# Altium footprint library DronePCB.PcbLib: 6 footprints
Each footprint in its own frame and in the unit in brackets; x right, y up, seen from the top. Pads: shape width x height; smd on the part's side, far side on the other; paste and mask are expansions set on the pad; w line width, h text height; cw(c..) or ccw(c..) is an arc to the next point about the centre after c.
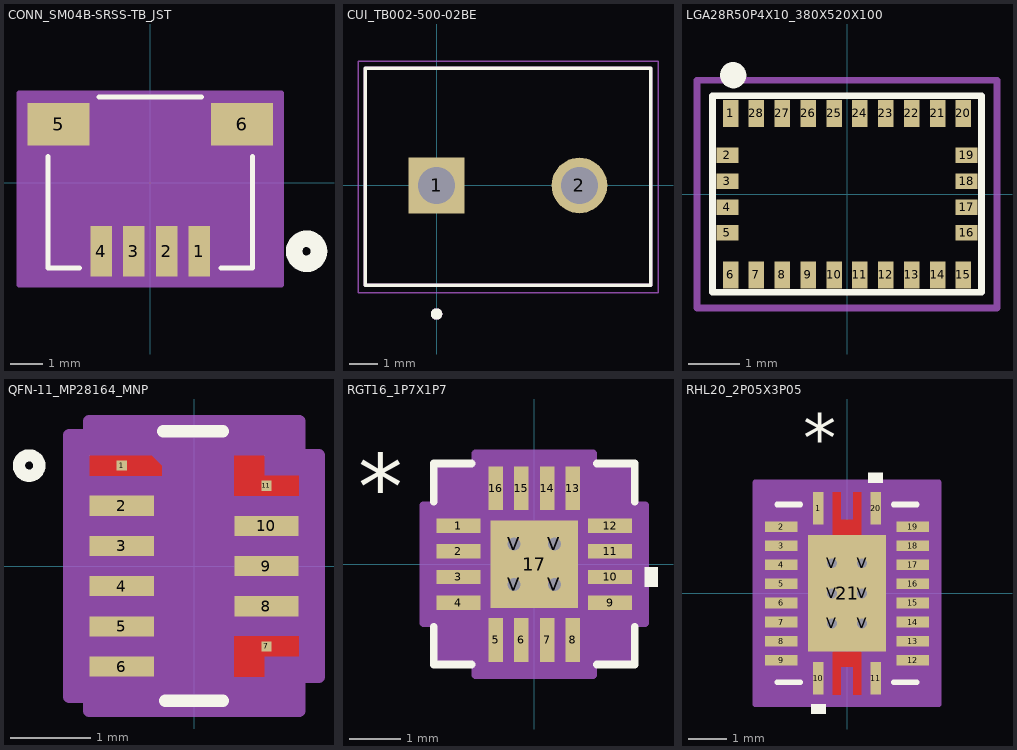
[diagram p0: the footprints below, top view; thin cyan lines are the x and y axes]

## CONN_SM04B-SRSS-TB_JST [mil] "Connector Header Surface Mount, Right Angle 4 position 0.039\" (1.00mm)"
pads (6):
  rect 26x61 smd paste+0 mask+0: 1(59.06,-82.62) 2(19.68,-82.62) 3(-19.68,-82.62) 4(-59.06,-82.62)
  rect 75x51 smd paste+0 mask+0: 5(-110.24,69.94) 6(110.24,69.94)
Top Overlay:
  circle w20: c187.74,-82.62 r15
  lines w6: -123,31.34 -123,-102.5 -85.16,-102.5 ; -61.7,102.5 61.7,102.5 ; 85.16,-102.5 123,-102.5 123,31.34
Bottom Overlay:
  circle w20: c187.74,-82.62 r15
Mechanical 13:
  circle w20: c59.06,-82.62 r15
  lines w1: -118,-97.5 118,-97.5 118,97.5 -118,97.5 -118,-97.5
Mechanical 15:
  region: 157.74,107.5 -157.74,107.5 -157.74,-123.12 157.74,-123.12
  lines w6: -157.74,-123.12 -157.74,107.5 157.74,107.5 157.74,-123.12 -157.74,-123.12
3D body "SM04B-SRSS-TB.STEP": height 128.15, standoff 11.61, extent -118.11,-108.39 118.11,86.47

## CUI_TB002-500-02BE [mm]
pads (2):
  rect 1.95x1.95 / inner round 1.95 / far side rect 1.95x1.95 hole 1.3: 1(0,0)
  round 1.95 hole 1.3: 2(5,0)
Top Overlay:
  circle w0.2: c0,-4.5 r0.1
  lines w0.127: -2.5,-3.5 -2.5,4.1 7.5,4.1 7.5,-3.5 -2.5,-3.5
Mechanical 13:
  circle w0.2: c0,-4.5 r0.1
  lines w0.127: -2.5,-3.5 -2.5,4.1 7.5,4.1 7.5,-3.5 -2.5,-3.5
Mechanical 15:
  lines w0.05: -2.75,-3.75 7.75,-3.75 7.75,4.35 -2.75,4.35 -2.75,-3.75
3D body "step_temp.STEP": height 10, standoff -4.35, extent -3.218,-3.302 7.282,4.298

## LGA28R50P4X10_380X520X100 [mm]
pads (28):
  rect 0.3x0.525 smd: 1(-2.25,1.562) 6(-2.25,-1.562) 7(-1.75,-1.562) 8(-1.25,-1.562) 9(-0.75,-1.562) 10(-0.25,-1.562) 11(0.25,-1.562) 12(0.75,-1.562) 13(1.25,-1.562) 14(1.75,-1.562) 15(2.25,-1.562) 20(2.25,1.562) 21(1.75,1.562) 22(1.25,1.562) 23(0.75,1.562) 24(0.25,1.562) 25(-0.25,1.562) 26(-0.75,1.562) 27(-1.25,1.562) 28(-1.75,1.562)
  rect 0.425x0.3 smd: 2(-2.312,0.75) 3(-2.312,0.25) 4(-2.312,-0.25) 5(-2.312,-0.75) 16(2.312,-0.75) 17(2.312,-0.25) 18(2.312,0.25) 19(2.312,0.75)
Top Overlay:
  circle w0.305: c-2.2,2.3 r0.1
  lines w0.127: -2.6,-1.9 2.6,-1.9 2.6,1.9 -2.6,1.9 -2.6,-1.9
Mechanical 15:
  lines w0.127: -2.9,-2.2 -2.9,2.2 2.9,2.2 2.9,-2.2 -2.9,-2.2

## QFN-11_MP28164_MNP [mm] "MP28164GD-Z"
pads (11):
  rect 0.127x0.127 smd paste-0.064 mask+0: 1(-0.9,1.25) 7(0.9,-1) 11(0.9,1)
  rect 0.8x0.25 smd paste-0.125 mask+0: 2(-0.9,0.75) 3(-0.9,0.25) 4(-0.9,-0.25) 5(-0.9,-0.75) 6(-0.9,-1.25) 8(0.9,-0.5) 9(0.9,0) 10(0.9,0.5)
Top Layer:
  region: 1.3,1.125 1.3,0.875 0.5,0.875 0.5,1.375 0.875,1.375 0.875,1.125
  region: -0.525,1.375 -1.3,1.375 -1.3,1.125 -0.4,1.125 -0.4,1.25
  region: 1.3,-1.125 1.3,-0.875 0.5,-0.875 0.5,-1.375 0.875,-1.375 0.875,-1.125
Top Overlay:
  circle w0.152: c-2.052,1.25 r0.127
  lines w0.152: -0.384,1.676 0.359,1.676 ; -0.359,-1.676 0.359,-1.676
Top Paste:
  region: 1.3,-1.125 1.3,-0.875 0.5,-0.875 0.5,-1.375 0.875,-1.375 0.875,-1.125
  region: 1.3,1.125 1.3,0.875 0.5,0.875 0.5,1.375 0.875,1.375 0.875,1.125
  region: -0.525,1.375 -1.3,1.375 -1.3,1.125 -0.4,1.125 -0.4,1.25
  region: -0.525,1.375 -1.3,1.375 -1.3,1.125 -0.4,1.125 -0.4,1.25
Top Solder:
  region: 1.3,-1.125 1.3,-0.875 0.5,-0.875 0.5,-1.375 0.875,-1.375 0.875,-1.125
  region: 1.3,1.125 1.3,0.875 0.5,0.875 0.5,1.375 0.875,1.375 0.875,1.125
  region: -0.525,1.375 -1.3,1.375 -1.3,1.125 -0.4,1.125 -0.4,1.25
  region: -0.525,1.375 -1.3,1.375 -1.3,1.125 -0.4,1.125 -0.4,1.25
Mechanical 13:
  circle w0: c-0.5,1.25 r0.076
  lines w0: -0.305,1.549 ccw(c0,1.549) 0.305,1.549
  lines w0.025: -1.054,-1.549 -1.054,1.549 1.054,1.549 1.054,-1.549 -1.054,-1.549
Mechanical 15:
  region: 1.308,1.379 1.308,1.803 -1.308,1.803 -1.308,1.629 -1.554,1.629 -1.554,-1.629 -1.308,-1.629 -1.308,-1.803 1.308,-1.803 1.308,-1.379 1.554,-1.379 1.554,1.379
  lines w0.152: -1.554,-1.629 -1.308,-1.629 -1.308,-1.803 1.308,-1.803 1.308,-1.379 1.554,-1.379 1.554,1.379 1.308,1.379 1.308,1.803 -1.308,1.803 -1.308,1.629 -1.554,1.629 -1.554,-1.629

## RGT16_1P7X1P7 [mm] "BQ24074RGTR"
pads (21):
  rect 0.85x0.28 smd paste+0 mask+0: 1(-1.475,0.75) 2(-1.475,0.25) 3(-1.475,-0.25) 4(-1.475,-0.75) 9(1.475,-0.75) 10(1.475,-0.25) 11(1.475,0.25) 12(1.475,0.75)
  rect 0.28x0.85 smd paste+0 mask+0: 5(-0.75,-1.475) 6(-0.25,-1.475) 7(0.25,-1.475) 8(0.75,-1.475) 13(0.75,1.475) 14(0.25,1.475) 15(-0.25,1.475) 16(-0.75,1.475)
  rect 1.7x1.7 smd paste-0.85 mask-0.838: 17(0,0)
  round 0.508 hole 0.254 paste-2539.97 mask-0.254: V(-0.394,-0.394) V(-0.394,0.394) V(0.394,-0.394) V(0.394,0.394)
Top Overlay:
  region: 2.154,-0.059 2.408,-0.059 2.408,-0.44 2.154,-0.44
  lines w0.152: -1.956,-1.218 -1.956,-1.956 -1.218,-1.956 ; -1.956,1.218 -1.956,1.956 -1.218,1.956 ; 1.218,-1.956 1.956,-1.956 1.956,-1.218 ; 1.218,1.956 1.956,1.956 1.956,1.218
  text "*" at -3.429,0.889 h1.27
Top Paste:
  region: 0.775,-0.494 0.635,-0.494 0.494,-0.635 0.494,-0.775 0.775,-0.775
  region: 0.775,0.294 0.635,0.294 0.494,0.152 0.494,-0.152 0.635,-0.294 0.775,-0.294
  region: 0.775,0.775 0.494,0.775 0.494,0.635 0.635,0.494 0.775,0.494
  region: 0.152,-0.494 -0.152,-0.494 -0.294,-0.635 -0.294,-0.775 0.294,-0.775 0.294,-0.635
  region: 0.152,0.294 -0.152,0.294 -0.294,0.152 -0.294,-0.152 -0.152,-0.294 0.152,-0.294 0.294,-0.152 0.294,0.152
  region: 0.294,0.775 -0.294,0.775 -0.294,0.635 -0.152,0.494 0.152,0.494 0.294,0.635
  region: -0.635,-0.494 -0.775,-0.494 -0.775,-0.775 -0.494,-0.775 -0.494,-0.635
  region: -0.635,0.294 -0.775,0.294 -0.775,-0.294 -0.635,-0.294 -0.494,-0.152 -0.494,0.152
  region: -0.494,0.775 -0.775,0.775 -0.775,0.494 -0.635,0.494 -0.494,0.635
Top Solder:
  region: 0.594,-0.914 0.594,0.914 0.914,0.914 0.914,-0.914
  region: 0.194,-0.914 0.194,0.914 -0.194,0.914 -0.194,-0.914
  region: -0.914,-0.914 -0.914,0.914 -0.594,0.914 -0.594,-0.914
  region: -0.914,-0.914 -0.914,-0.594 0.914,-0.594 0.914,-0.914
  region: -0.914,-0.194 -0.914,0.194 0.914,0.194 0.914,-0.194
  region: -0.914,0.594 -0.914,0.914 0.914,0.914 0.914,0.594
Mechanical 13:
  lines w0.025: -1.575,0.305 -0.305,1.575 ; -1.575,-1.575 -1.575,1.575 1.575,1.575 1.575,-1.575 -1.575,-1.575
  text "*" at -1.114,0.365 h1.27
Mechanical 15:
  region: -1.144,-1.829 -1.829,-1.829 -1.829,-1.144 -2.154,-1.144 -2.154,1.144 -1.829,1.144 -1.829,1.829 -1.144,1.829 -1.144,2.154 1.144,2.154 1.144,1.829 1.829,1.829 1.829,1.144 2.154,1.144 2.154,-1.144 1.829,-1.144 1.829,-1.829 1.144,-1.829 1.144,-2.154 -1.144,-2.154
  lines w0.152: -2.154,-1.144 -2.154,1.144 -1.829,1.144 -1.829,1.829 -1.144,1.829 -1.144,2.154 1.144,2.154 1.144,1.829 1.829,1.829 1.829,1.144 2.154,1.144 2.154,-1.144 1.829,-1.144 1.829,-1.829 1.144,-1.829 1.144,-2.154 -1.144,-2.154 -1.144,-1.829 -1.829,-1.829 -1.829,-1.144 -2.154,-1.144
3D body "RGT16_1P7X1P7.step": height 1, standoff 0, extent -1.626,-1.626 1.626,1.626

## RHL20_2P05X3P05 [mm] "BQ51013B"
pads (27):
  rect 0.28x0.85 smd paste-0.14 mask-0.419: 1(-0.75,2.225) 10(-0.75,-2.225) 11(0.75,-2.225) 20(0.75,2.225)
  rect 0.85x0.28 smd paste-0.14 mask-0.419: 2(-1.725,1.75) 3(-1.725,1.25) 4(-1.725,0.75) 5(-1.725,0.25) 6(-1.725,-0.25) 7(-1.725,-0.75) 8(-1.725,-1.25) 9(-1.725,-1.75) 12(1.725,-1.75) 13(1.725,-1.25) 14(1.725,-0.75) 15(1.725,-0.25) 16(1.725,0.25) 17(1.725,0.75) 18(1.725,1.25) 19(1.725,1.75)
  rect 2.05x3.05 smd paste-1.512 mask-1.511: 21(0,0)
  round 0.508 hole 0.254 paste-2539.97 mask-0.254: V(-0.394,-0.787) V(-0.394,0) V(-0.394,0.787) V(0.394,-0.787) V(0.394,0) V(0.394,0.787)
Top Layer:
  region: -0.375,1.525 0.375,1.525 0.375,2.65 0.16,2.65 0.16,1.925 -0.16,1.925 -0.16,2.65 -0.375,2.65
  region: -0.375,-1.525 0.375,-1.525 0.375,-2.65 0.16,-2.65 0.16,-1.925 -0.16,-1.925 -0.16,-2.65 -0.375,-2.65
Top Overlay:
  region: -0.56,-2.904 -0.941,-2.904 -0.941,-3.158 -0.56,-3.158
  region: 0.941,2.904 0.56,2.904 0.56,3.158 0.941,3.158
  lines w0.152: -1.825,-2.325 -1.223,-2.325 ; -1.825,2.325 -1.223,2.325 ; 1.223,-2.325 1.825,-2.325 ; 1.223,2.325 1.825,2.325
  text "*" at -1.143,3.429 h1.27
Top Paste:
  drawing of 36 lines, arcs and shapes, not listed
Top Solder:
  region: -1.23,1.96 -2.22,1.96 -2.22,1.54 -1.23,1.54
  region: -1.23,1.46 -2.22,1.46 -2.22,1.04 -1.23,1.04
  region: -1.23,0.96 -2.22,0.96 -2.22,0.54 -1.23,0.54
  region: -1.23,0.46 -2.22,0.46 -2.22,0.04 -1.23,0.04
  region: -1.23,-0.04 -2.22,-0.04 -2.22,-0.46 -1.23,-0.46
  region: -1.23,-0.54 -2.22,-0.54 -2.22,-0.96 -1.23,-0.96
  region: -1.23,-1.04 -2.22,-1.04 -2.22,-1.46 -1.23,-1.46
  region: -1.23,-1.54 -2.22,-1.54 -2.22,-1.96 -1.23,-1.96
  region: -0.54,-1.73 -0.96,-1.73 -0.96,-2.72 -0.54,-2.72
  region: 0.96,-1.73 0.54,-1.73 0.54,-2.72 0.96,-2.72
  region: 2.22,-1.54 1.23,-1.54 1.23,-1.96 2.22,-1.96
  region: 2.22,-1.04 1.23,-1.04 1.23,-1.46 2.22,-1.46
  region: 2.22,-0.54 1.23,-0.54 1.23,-0.96 2.22,-0.96
  region: 2.22,-0.04 1.23,-0.04 1.23,-0.46 2.22,-0.46
  region: 2.22,0.46 1.23,0.46 1.23,0.04 2.22,0.04
  region: 2.22,0.96 1.23,0.96 1.23,0.54 2.22,0.54
  region: 2.22,1.46 1.23,1.46 1.23,1.04 2.22,1.04
  region: 2.22,1.96 1.23,1.96 1.23,1.54 2.22,1.54
  region: 0.96,2.72 0.54,2.72 0.54,1.73 0.96,1.73
  region: -0.54,2.72 -0.96,2.72 -0.96,1.73 -0.54,1.73
  region: -0.375,1.525 0.375,1.525 0.375,2.65 0.16,2.65 0.16,1.925 -0.16,1.925 -0.16,2.65 -0.375,2.65
  region: -0.375,-1.525 0.375,-1.525 0.375,-2.65 0.16,-2.65 0.16,-1.925 -0.16,-1.925 -0.16,-2.65 -0.375,-2.65
  region: -1.088,0.987 -1.088,1.588 1.088,1.588 1.088,0.987
  region: -1.088,0.2 -1.088,0.587 1.088,0.587 1.088,0.2
  region: -1.088,-0.587 -1.088,-0.2 1.088,-0.2 1.088,-0.587
  region: -1.088,-1.588 -1.088,-0.987 1.088,-0.987 1.088,-1.588
  region: -1.088,-1.588 -1.088,1.588 -0.594,1.588 -0.594,-1.588
  region: 0.194,-1.588 0.194,1.588 -0.194,1.588 -0.194,-1.588
  region: 0.594,-1.588 0.594,1.588 1.088,1.588 1.088,-1.588
Mechanical 13:
  lines w0.025: -1.825,1.055 -0.555,2.325 ; -1.825,-2.325 1.825,-2.325 1.825,2.325 -1.825,2.325 -1.825,-2.325
  text "*" at -1.143,3.429 h1.27
Mechanical 15:
  region: 2.404,-2.904 -2.404,-2.904 -2.404,2.904 2.404,2.904
  lines w0.152: -2.404,-2.904 -2.404,2.904 2.404,2.904 2.404,-2.904 -2.404,-2.904
3D body "RHL20_2P05X3P05.step": height 1, standoff 0, extent -1.876,-2.376 1.876,2.376